# Altium schematic symbol library LoraE220-400t33s.SchLib: 1 symbol
Pins are listed as number, name and electrical type; pins without a type are passive.

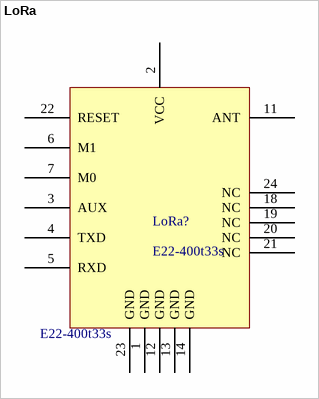
[diagram p0: symbol LoRa]

## LoRa
designator LoRa?, comment E22-400t33s
(UART) based on SEMTECH's LoRa solution, with an operating frequency of 410.125~493.125MHz (default 433.125MHz), TTL level output, and is compatible with 3.3V and 5V IO port voltages.
footprint E32-433T33S
pins: 1 GND, 2 VCC, 3 AUX, 4 TXD, 5 RXD, 6 M1, 7 M0, 11 ANT, 12 GND, 13 GND, 14 GND, 18 NC, 19 NC, 20 NC, 21 NC, 22 RESET, 23 GND, 24 NC